# Altium schematic symbol library USB-B-S-X-X-TH.SchLib: 1 symbol
Pins are listed as number, name and electrical type; pins without a type are passive.

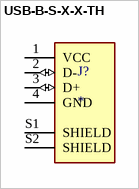
[diagram p0: symbol USB-B-S-X-X-TH]

## USB-B-S-X-X-TH
designator J?
USB-B (USB TYPE-B) USB 2.0 Receptacle Connector 4 Position Through Hole, Right Angle; MP: USB-B-S-X-X-TH; Package: None; Price: None; Availability: Unavailable; Value: *
footprint SAMTEC_USB-B-S-X-X-TH
pins: 1 VCC (power), 2 D- (io), 3 D+ (io), 4 GND (power), S1 SHIELD, S2 SHIELD